# EAGLE library part OPA569 (library Zoli2_2015-02-22)
High output current operational amplifier
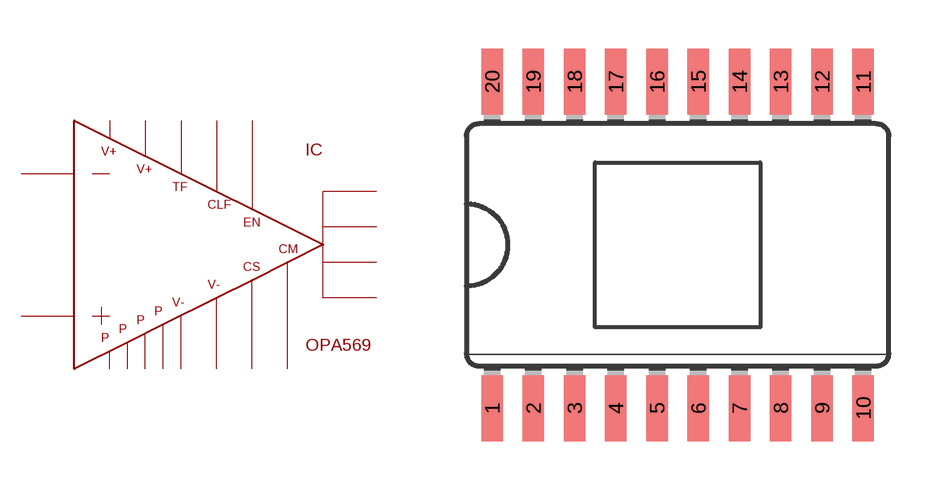
[diagram p26: symbol with the pads of POWER-SO20; footprint POWER-SO20]

Designator prefix IC

## OPA569DWP  [POWER-SO20]
1  PP  pas
2  POUT  out
3  CS  in
4  CLF  out
5  IN-  in
6  IN+  in
7  TF  out
8  EN  in
9  POUT  out
10  PP  pas
11  PP  pas
12  V+  pwr
13  V+  pwr
14  OUT  out
15  OUT  out
17  V-  pwr
18  V-  pwr
19  CM  out
20  PP  pas

## Footprint POWER-SO20 (pad centres in mm)
Small Outline Package
smd 0.66 x 2.032: 1 -5.715,-5.029; 2 -4.445,-5.029; 3 -3.175,-5.029; 4 -1.905,-5.029; 5 -0.635,-5.029; 6 0.635,-5.029; 7 1.905,-5.029; 8 3.175,-5.029; 9 4.445,-5.029; 10 5.715,-5.029; 11 5.715,5.029; 12 4.445,5.029; 13 3.175,5.029; 14 1.905,5.029; 15 0.635,5.029; 16 -0.635,5.029; 17 -1.905,5.029; 18 -3.175,5.029; 19 -4.445,5.029; 20 -5.715,5.029